# Altium footprint library TFTLCD.PcbLib: 7 footprints
Each footprint in its own frame and in the unit in brackets; x right, y up, seen from the top. Pads: shape width x height; smd on the part's side, far side on the other; paste and mask are expansions set on the pad; w line width, h text height; cw(c..) or ccw(c..) is an arc to the next point about the centre after c.
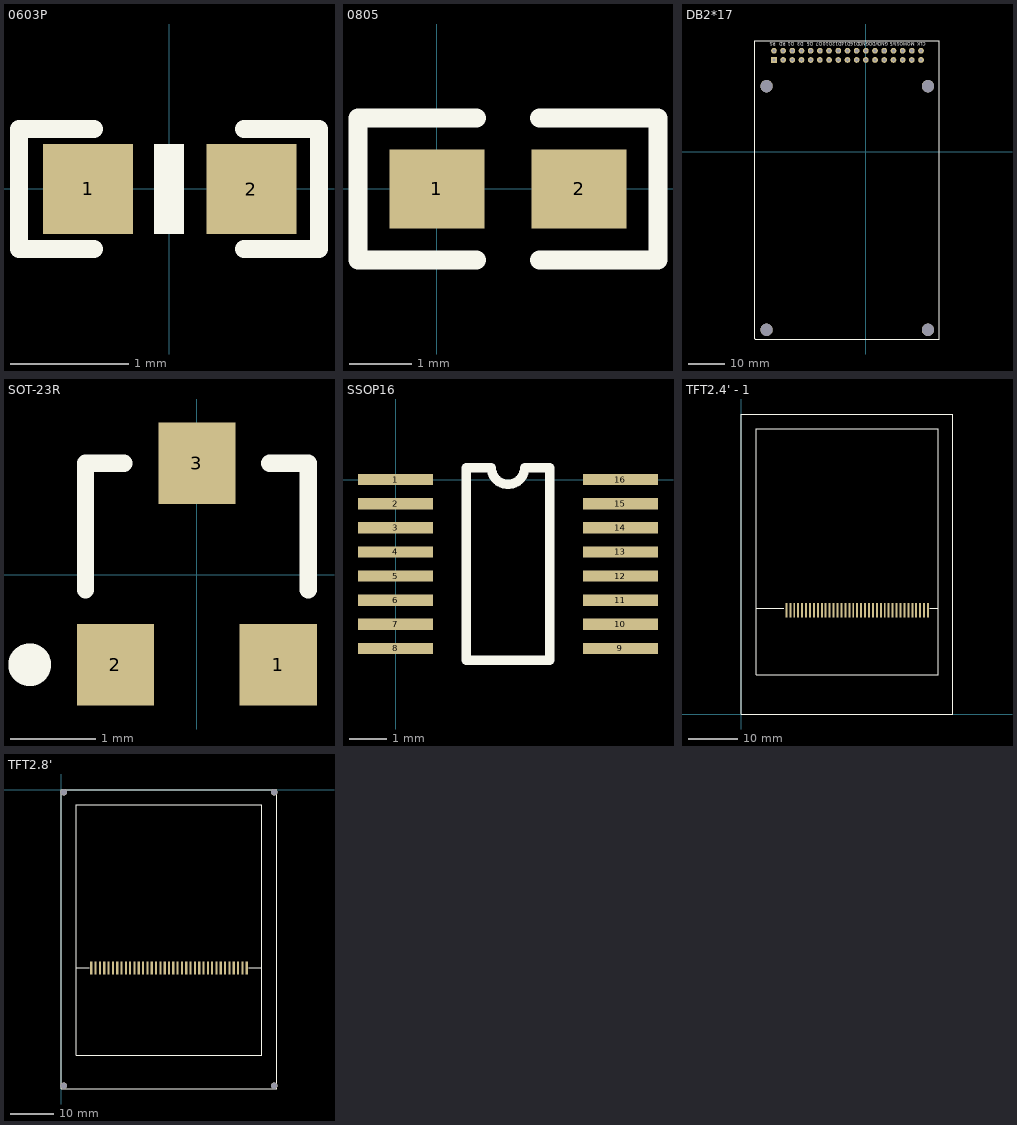
[diagram p0: the footprints below, top view; thin cyan lines are the x and y axes]

## 0603P [mil]
pads (2):
  rect 30x30 smd: 1(-27,0) 2(27.5,-0.06)
Top Overlay:
  region: 5.04,-14.99 5.04,15.01 -4.96,15.01 -4.96,-14.99
  lines w6: -25,-20.06 -50,-20.06 -50,19.94 -25,19.94 ; 25,-20.06 50,-20.06 50,19.94 25,19.94

## 0805 [mil]
pads (2):
  rect 60x50 smd: 1(0,-0.06) 2(90,-0.06)
Top Overlay:
  lines w12: 25,-45.06 -50,-45.06 -50,44.94 25,44.94 ; 65,-45.06 140,-45.06 140,44.94 65,44.94

## DB2*17 [mil]
pads (38):
  rect 62x62 hole 35: 1(-1000,1000)
  round 62 hole 35: 2(-1000,1100) 3(-900,1000) 4(-900,1100) 5(-800,1000) 6(-800,1100) 7(-700,1000) 8(-700,1100) 9(-600,1000) 10(-600,1100) 11(-500,1000) 12(-500,1100) 13(-400,1000) 14(-400,1100) 15(-300,1000) 16(-300,1100) 17(-200,1000) 18(-200,1100) 19(-100,1000) 20(-100,1100) 21(0,1000) 22(0,1100) 23(100,1000) 24(100,1100) 25(200,1000) 26(200,1100) 27(300,1000) 28(300,1100) 29(400,1000) 30(400,1100) 31(500,1000) 32(500,1100) 33(600,1000) 34(600,1100)
  round 133.86 hole 133.86: ""(-1080,-1935) ""(-1080,715) ""(675,-1935) ""(675,715)
Top Overlay:
  lines w10: -1210,-2030 -1210,1210 -625,1210 800,1210 800,-2035 -1205,-2035 -1210,-2030
  text "MO" at 531.28,1192.79 h35
  text "MOSI" at 452.54,1192.79 h35
  text "CLK" at 649.39,1192.79 h35
  text "GND" at 39.15,1192.79 h35
  text "RD" at -871.28,1192.79 h35
  text "D1" at -777.78,1192.79 h35
  text "D12" at -261.04,1192.79 h35
  text "VDD" at 142.5,1192.79 h35
  text "GND" at 245.84,1192.79 h35
  text "V5" at 324.58,1192.79 h35
  text "D14" at -162.62,1192.79 h35
  text "D10" at -364.39,1192.79 h35
  text "D7" at -472.66,1192.79 h35
  text "D5" at -571.08,1192.79 h35
  text "D3" at -674.43,1192.79 h35
  text "RS" at -979.55,1192.79 h35
  text "D16" at -64.19,1192.79 h35
Bottom Overlay:
  lines w6: -1050,1050 -950,1050 -950,950 ; -1050,950 650,950 650,1150 -1050,1150 -1050,950

## SOT-23R [mm]
pads (3):
  rect 0.9x0.95 smd: 1(0.95,-1.048) 2(-0.95,-1.048) 3(0,1.302)
Top Overlay:
  circle w0.25: c-1.95,-1.048 r0.125
  lines w0.2: -1.3,-0.173 -1.3,1.302 -0.85,1.302 ; 0.85,1.302 1.3,1.302 1.3,-0.173

## SSOP16 [mm]
pads (16):
  rect 2x0.3 smd: 1(0,0) 2(0,-0.643) 3(0,-1.286) 4(0,-1.929) 5(0,-2.572) 6(0,-3.215) 7(0,-3.858) 8(0,-4.501) 9(6,-4.501) 10(6,-3.858) 11(6,-3.215) 12(6,-2.572) 13(6,-1.929) 14(6,-1.286) 15(6,-0.643) 16(6,0)
Top Overlay:
  lines w0.254: 1.889,-4.822 4.111,-4.822 4.111,0.322 3.447,0.322 cw(c3,0.322) 2.553,0.322 1.889,0.322 1.889,-4.822

## TFT2.4' - 1 [mm]
pads (37):
  rect 0.4x3 smd: 1(9.173,21.082) 2(9.973,21.082) 3(10.773,21.082) 4(11.573,21.082) 5(12.373,21.082) 6(13.173,21.082) 7(13.973,21.082) 8(14.773,21.082) 9(15.573,21.082) 10(16.373,21.082) 11(17.173,21.082) 12(17.973,21.082) 13(18.773,21.082) 14(19.573,21.082) 15(20.373,21.082) 16(21.173,21.082) 17(21.973,21.082) 18(22.773,21.082) 19(23.573,21.082) 20(24.373,21.082) 21(25.173,21.082) 22(25.973,21.082) 23(26.773,21.082) 24(27.573,21.082) 25(28.373,21.082) 26(29.173,21.082) 27(29.973,21.082) 28(30.773,21.082) 29(31.573,21.082) 30(32.373,21.082) 31(33.173,21.082) 32(33.973,21.082) 33(34.773,21.082) 34(35.573,21.082) 35(36.373,21.082) 36(37.173,21.082) 37(37.973,21.082)
Top Overlay:
  lines w0.254: 3.175,21.463 8.636,21.463 ; 38.354,21.463 40.005,21.463 ; 0,0 0,61 43,61 43,0 0,0 ; 3.048,7.952 3.048,57.952 40.005,57.952 40.005,7.952 3.048,7.952

## TFT2.8' [mm]
pads (41):
  rect 0.5x3 smd: 1(7,-41.375) 2(8,-41.375) 3(9,-41.375) 4(10,-41.375) 5(11,-41.375) 6(12,-41.375) 7(13,-41.375) 8(14,-41.375) 9(15,-41.375) 10(16,-41.375) 11(17,-41.375) 12(18,-41.375) 13(19,-41.375) 14(20,-41.375) 15(21,-41.375) 16(22,-41.375) 17(23,-41.375) 18(24,-41.375) 19(25,-41.375) 20(26,-41.375) 21(27,-41.375) 22(28,-41.375) 23(29,-41.375) 24(30,-41.375) 25(31,-41.375) 26(32,-41.375) 27(33,-41.375) 28(34,-41.375) 29(35,-41.375) 30(36,-41.375) 31(37,-41.375) 32(38,-41.375) 33(39,-41.375) 34(40,-41.375) 35(41,-41.375) 36(42,-41.375) 37(43,-41.375)
  round 1.5 hole 1.5: 38(49.375,-0.625) 39(0.625,-0.625) 40(49.375,-68.625) 41(0.625,-68.625)
Top Overlay:
  lines w0.254: 3.5,-41.275 6.477,-41.275 ; 43.461,-41.275 46.5,-41.275 ; 0,-69.3 0,0 50,0 50,-69.3 0,-69.3 ; 3.5,-61.6 3.5,-3.5 46.5,-3.5 46.5,-61.6 3.5,-61.6